# EAGLE library part CP210X_USB_UART (library SparkFun-Retired)
Single-Chip USB to UART Bridge Source: www.silabs.com .. CP2101.pdf / cp2102.pdf. Spark Fun Electronics SKU : COM-00310 RETIRED: IC-00865
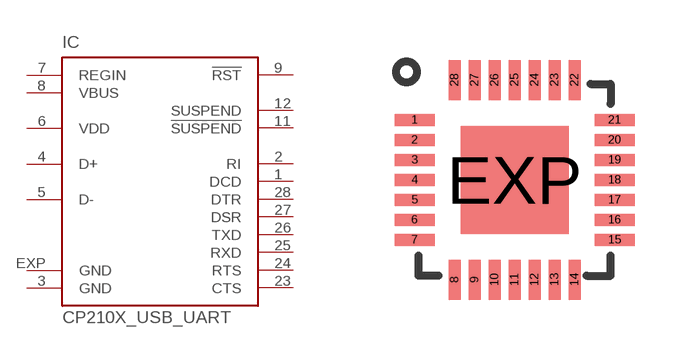
[diagram p0: symbol with the pads of MLP28; footprint MLP28]

Designator prefix IC

## CP210X_USB_UART (PROD_ID: COM-00310; VALUE: CP2101)  [MLP28]
1  DCD  in
2  RI  in
3  GND  pwr
4  D+
5  D-
6  VDD  pwr
7  REGIN  pas
8  VBUS  in
9  !RST
11  !SUSPEND  out
12  SUSPEND  out
23  CTS  in
24  RTS  out
25  RXD  in
26  TXD  out
27  DSR  in
28  DTR  out
EXP  GND  pwr

## Footprint MLP28 (pad centres in mm)
MLP 28 Source: www.silabs.com .. CP2101.pdf
smd 1 x 0.3: 1 -2.5,1.5; 2 -2.5,1; 3 -2.5,0.5; 4 -2.5,0; 5 -2.5,-0.5; 6 -2.5,-1; 7 -2.5,-1.5; 15 2.5,-1.5; 16 2.5,-1; 17 2.5,-0.5; 18 2.5,0; 19 2.5,0.5; 20 2.5,1; 21 2.5,1.5
smd 0.3 x 1: 8 -1.5,-2.5; 9 -1,-2.5; 10 -0.5,-2.5; 11 0,-2.5; 12 0.5,-2.5; 13 1,-2.5; 14 1.5,-2.5; 22 1.5,2.5; 23 1,2.5; 24 0.5,2.5; 25 0,2.5; 26 -0.5,2.5; 27 -1,2.5; 28 -1.5,2.5
smd 2.7 x 2.7: EXP 0,0